# EAGLE library part EB-270 (library X893)
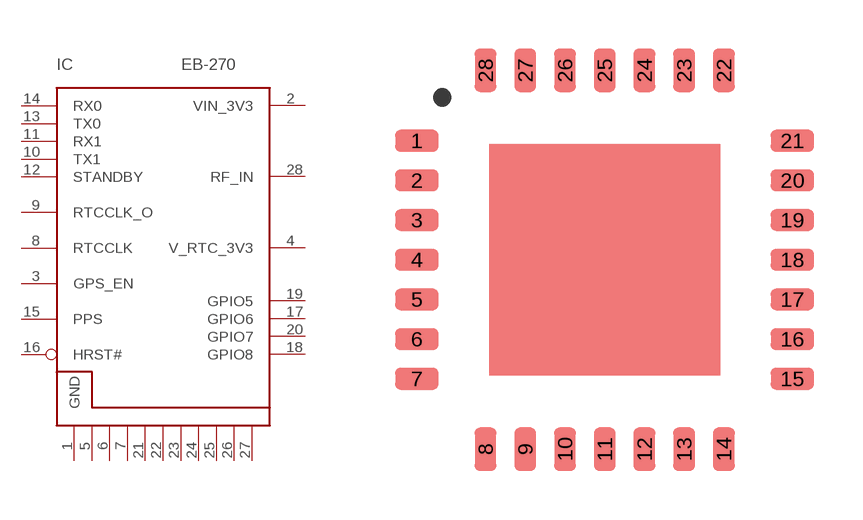
[diagram p11: symbol with the pads of EB-270; footprint EB-270]

Designator prefix IC

## EB-270  [EB-270]
1  GND  pwr
2  VIN_3V3  pas
3  GPS_EN  in
4  V_RTC_3V3  pas
5  GND  pwr
6  GND  pwr
7  GND  pwr
8  RTCCLK  pas
9  RTCCLK_O  pas
10  TX1  out
11  RX1  in
12  STANDBY  in
13  TX0  out
14  RX0  in
15  PPS  out
16  HRST#  in
17  GPIO6
18  GPIO8
19  GPIO5
20  GPIO7
21  GND  pwr
22  GND  pwr
23  GND  pas
24  GND  pwr
25  GND  pwr
26  GND  pwr
27  GND  pwr
28  RF_IN  pas

## Footprint EB-270 (pad centres in mm)
GPS module
smd 1.2 x 0.6: 1 -5.2,3.3; 2 -5.2,2.2; 3 -5.2,1.1; 4 -5.2,0; 5 -5.2,-1.1; 6 -5.2,-2.2; 7 -5.2,-3.3; 15 5.2,-3.3; 16 5.2,-2.2; 17 5.2,-1.1; 18 5.2,0; 19 5.2,1.1; 20 5.2,2.2; 21 5.2,3.3
smd 0.6 x 1.2: 8 -3.3,-5.25; 9 -2.2,-5.25; 10 -1.1,-5.25; 11 0,-5.25; 12 1.1,-5.25; 13 2.2,-5.25; 14 3.3,-5.25; 22 3.3,5.25; 23 2.2,5.25; 24 1.1,5.25; 25 0,5.25; 26 -1.1,5.25; 27 -2.2,5.25; 28 -3.3,5.25